# Altium footprint library TrackCommanderCar_PCB.PcbLib: 41 footprints (part 2 of 3)
Each footprint in its own frame and in the unit in brackets; x right, y up, seen from the top. Pads: shape width x height; smd on the part's side, far side on the other; paste and mask are expansions set on the pad; w line width, h text height; cw(c..) or ccw(c..) is an arc to the next point about the centre after c.
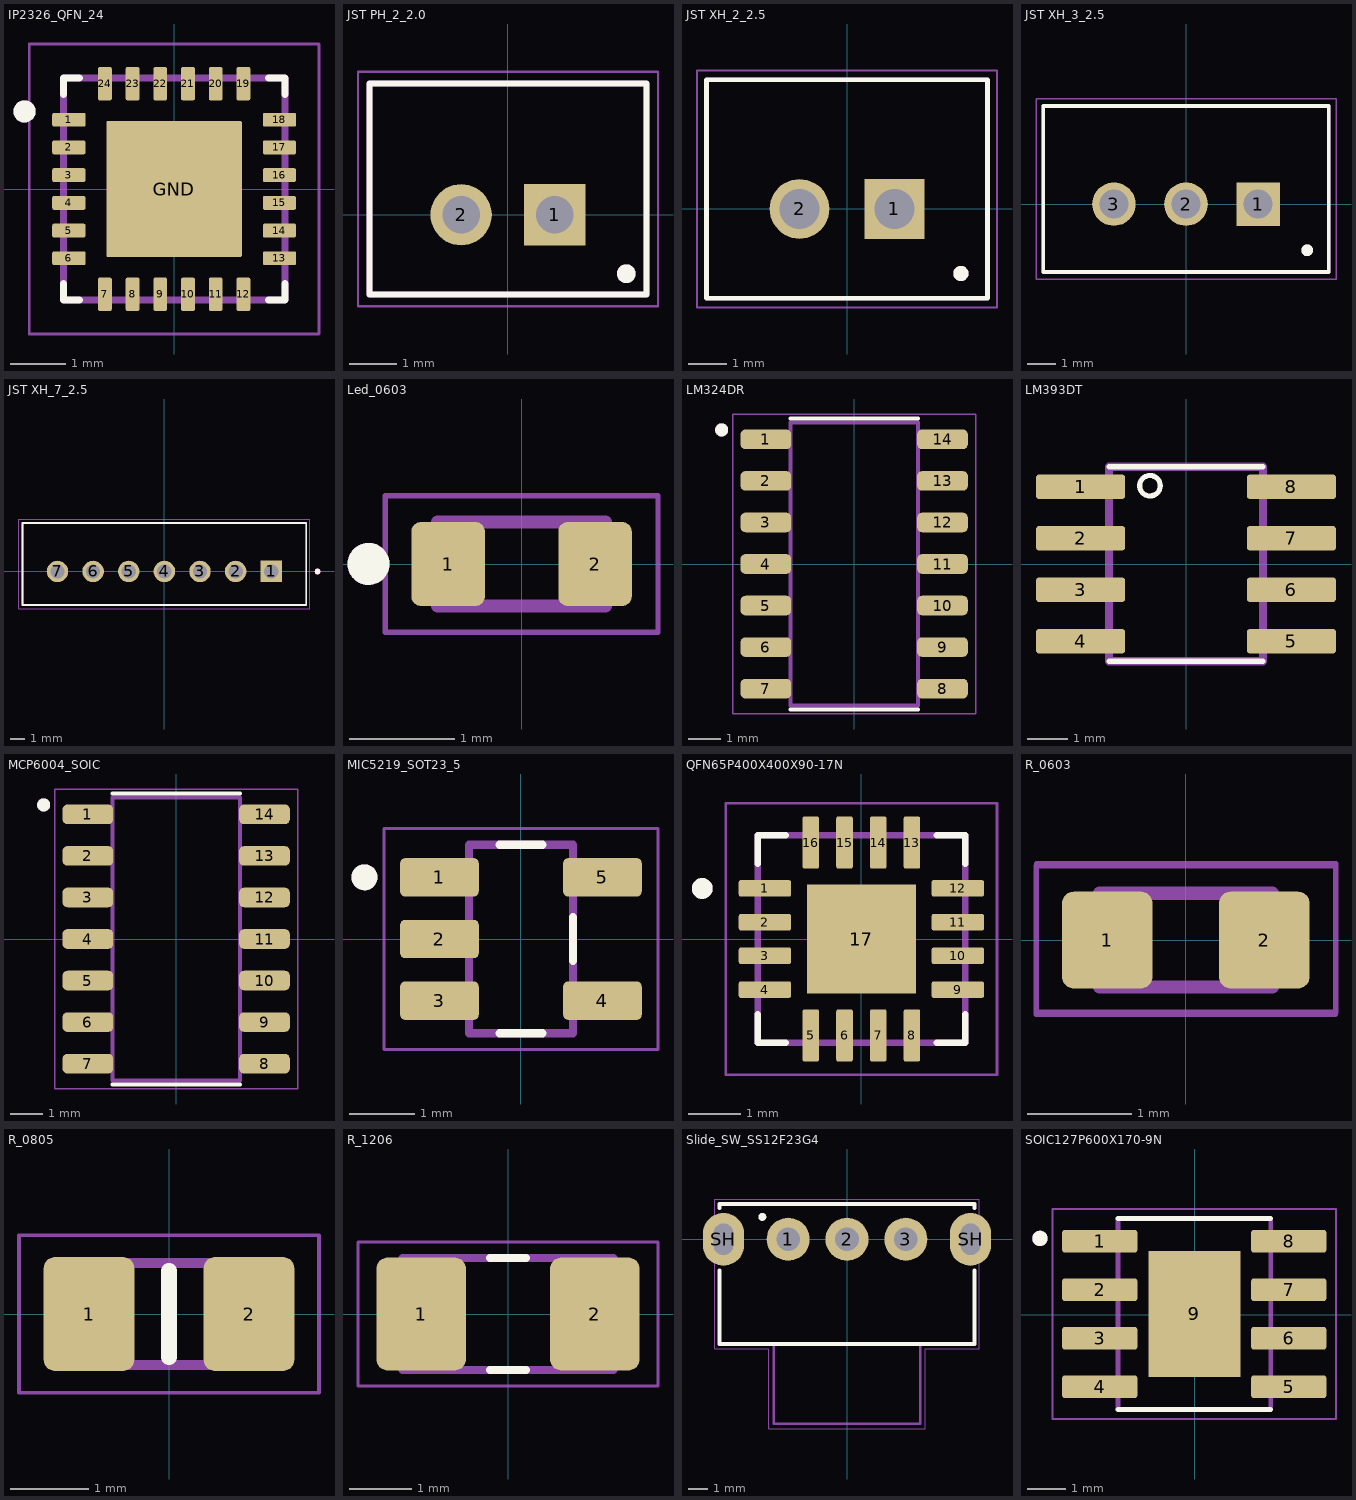
[diagram p1: the footprints below, top view; thin cyan lines are the x and y axes]

## IP2326_QFN_24 [mm]
pads (25):
  rrect25% 0.6x0.25 smd mask+0.07: 1(-1.9,1.25) 2(-1.9,0.75) 3(-1.9,0.25) 4(-1.9,-0.25) 5(-1.9,-0.75) 6(-1.9,-1.25) 13(1.9,-1.25) 14(1.9,-0.75) 15(1.9,-0.25) 16(1.9,0.25) 17(1.9,0.75) 18(1.9,1.25)
  rrect25% 0.25x0.6 smd mask+0.07: 7(-1.25,-1.9) 8(-0.75,-1.9) 9(-0.25,-1.9) 10(0.25,-1.9) 11(0.75,-1.9) 12(1.25,-1.9) 19(1.25,1.9) 20(0.75,1.9) 21(0.25,1.9) 22(-0.25,1.9) 23(-0.75,1.9) 24(-1.25,1.9)
  rrect2% 2.45x2.45 smd paste-0.45 mask+0.07: GND(0,0)
Top Overlay:
  circle w0.2: c-2.7,1.4 r0.1
  lines w0.127: -2,-1.705 -2,-2 -1.705,-2 ; -2,1.705 -2,2 -1.705,2 ; 1.705,-2 2,-2 2,-1.705 ; 1.705,2 2,2 2,1.705
Mechanical 13:
  circle w0.2: c-2.7,1.4 r0.1
  lines w0.127: -2,-2 -2,2 2,2 2,-2 -2,-2
Mechanical 15:
  lines w0.05: -2.615,-2.615 -2.615,2.615 2.615,2.615 2.615,-2.615 -2.615,-2.615
3D body "step_temp.STEP": height 1, standoff 0, extent -2,-2 2,2

## JST PH_2_2.0 [mm]
pads (2):
  rect 1.308x1.308 / inner round 1.308 / far side rect 1.308x1.308 hole 0.8 mask+0.07: 1(1,0)
  round 1.308 hole 0.8 mask+0.07: 2(-1,0)
Top Overlay:
  circle w0.2: c2.524,-1.257 r0.1
  lines w0.127: -2.95,-1.7 2.95,-1.7 2.95,2.8 -2.95,2.8 -2.95,-1.7
Mechanical 13:
  circle w0.2: c2.524,-1.257 r0.1
  lines w0.127: -2.95,-1.7 -2.95,2.8 2.95,2.8 2.95,-1.7 -2.95,-1.7
Mechanical 15:
  lines w0.05: -3.2,-1.95 -3.2,3.05 3.2,3.05 3.2,-1.95 -3.2,-1.95
3D body "step_temp.STEP": height 6, standoff -3.4, extent -2.95,-1.7 2.95,2.8

## JST XH_2_2.5 [mm]
pads (2):
  rect 1.575x1.575 / inner round 1.575 / far side rect 1.575x1.575 hole 1.05 mask+0.07: 1(1.25,0)
  round 1.575 hole 1.05 mask+0.07: 2(-1.25,0)
Top Overlay:
  circle w0.2: c3,-1.7 r0.1
  lines w0.127: -3.7,-2.35 -3.7,3.4 3.7,3.4 3.7,-2.35 -3.7,-2.35
Mechanical 13:
  circle w0.2: c3,-1.7 r0.1
  lines w0.127: -3.7,-2.35 -3.7,3.4 3.7,3.4 3.7,-2.35 -3.7,-2.35
Mechanical 15:
  lines w0.05: -3.95,-2.6 3.95,-2.6 3.95,3.65 -3.95,3.65 -3.95,-2.6
3D body "step_temp.STEP": height 7, standoff -3.4, extent -3.7,-2.35 3.7,3.4

## JST XH_3_2.5 [mm]
pads (3):
  rect 1.508x1.508 / inner round 1.508 / far side rect 1.508x1.508 hole 1 mask+0.07: 1(2.5,0)
  round 1.508 hole 1 mask+0.07: 2(0,0) 3(-2.5,0)
Top Overlay:
  circle w0.2: c4.2,-1.6 r0.1
  lines w0.127: -4.95,-2.35 4.95,-2.35 4.95,3.4 -4.95,3.4 -4.95,-2.35
Mechanical 13:
  circle w0.2: c4.2,-1.6 r0.1
  lines w0.127: -4.95,-2.35 4.95,-2.35 4.95,3.4 -4.95,3.4 -4.95,-2.35
Mechanical 15:
  lines w0.05: -5.2,-2.6 5.2,-2.6 5.2,3.65 -5.2,3.65 -5.2,-2.6
3D body "step_temp.STEP": height 7, standoff -3.4, extent -4.95,-2.35 4.95,3.4

## JST XH_7_2.5 [mm]
pads (7):
  rect 1.508x1.508 / inner round 1.508 / far side rect 1.508x1.508 hole 1 mask+0.07: 1(7.5,0)
  round 1.508 hole 1 mask+0.07: 2(5,0) 3(2.5,0) 4(0,0) 5(-2.5,0) 6(-5,0) 7(-7.5,0)
Top Overlay:
  circle w0.2: c10.75,0 r0.1
  lines w0.127: -9.95,-2.35 -9.95,3.4 9.95,3.4 9.95,-2.35 -9.95,-2.35
Mechanical 13:
  circle w0.2: c10.75,0 r0.1
  lines w0.127: -9.95,-2.35 -9.95,3.4 9.95,3.4 9.95,-2.35 -9.95,-2.35
Mechanical 15:
  lines w0.05: -10.2,-2.6 -10.2,3.65 10.2,3.65 10.2,-2.6 -10.2,-2.6
3D body "step_temp.STEP": height 7, standoff -3.4, extent -9.95,-2.35 9.95,3.4

## Led_0603 [mm]
pads (2):
  rrect25% 0.7x0.8 smd mask+0.07: 1(-0.7,0) 2(0.7,0)
Top Overlay:
  circle w0.2: c-1.459,0 r0.1
Mechanical 13:
  circle w0.2: c-1.459,0 r0.1
  lines w0.127: -0.8,-0.4 0.8,-0.4 0.8,0.4 -0.8,0.4 -0.8,-0.4
Mechanical 15:
  lines w0.05: -1.3,-0.65 -1.3,0.65 1.3,0.65 1.3,-0.65 -1.3,-0.65
3D body "step_temp.STEP": height 0.55, standoff 0, extent -0.8,-0.4 0.8,0.4

## LM324DR [mm]
pads (14):
  rrect50% 1.55x0.6 smd mask+0.05: 1(-2.7,3.81) 2(-2.7,2.54) 3(-2.7,1.27) 4(-2.7,0) 5(-2.7,-1.27) 6(-2.7,-2.54) 7(-2.7,-3.81) 8(2.7,-3.81) 9(2.7,-2.54) 10(2.7,-1.27) 11(2.7,0) 12(2.7,1.27) 13(2.7,2.54) 14(2.7,3.81)
Top Overlay:
  circle w0.2: c-4.05,4.1 r0.1
  lines w0.127: -1.95,-4.452 1.95,-4.452 ; -1.95,4.452 1.95,4.452
Mechanical 13:
  circle w0.2: c-4.05,4.1 r0.1
  lines w0.127: -1.95,-4.325 1.95,-4.325 1.95,4.325 -1.95,4.325 -1.95,-4.325
Mechanical 15:
  lines w0.05: -3.71,-4.575 3.71,-4.575 3.71,4.575 -3.71,4.575 -3.71,-4.575
3D body "step_temp.STEP": height 1.75, standoff 0, extent -3,-4.325 3,4.325

## LM393DT [mm]
pads (8):
  rrect25% 2.2x0.6 smd mask+0.07: 1(-2.6,1.905) 2(-2.6,0.635) 3(-2.6,-0.635) 4(-2.6,-1.905) 5(2.6,-1.905) 6(2.6,-0.635) 7(2.6,0.635) 8(2.6,1.905)
Top Overlay:
  circle w0.127: c-0.889,1.93 r0.254
  lines w0.127: -1.9,-2.4 1.9,-2.4 ; -1.9,2.4 1.9,2.4
Mechanical 13:
  region: -3.1,1.66 -3.1,2.15 -2,2.15 -2,1.66
  region: -3.1,0.39 -3.1,0.88 -2,0.88 -2,0.39
  region: -3.1,-0.88 -3.1,-0.39 -2,-0.39 -2,-0.88
  region: -3.1,-2.15 -3.1,-1.66 -2,-1.66 -2,-2.15
  region: 2,-2.15 2,-1.66 3.1,-1.66 3.1,-2.15
  region: 2,-0.88 2,-0.39 3.1,-0.39 3.1,-0.88
  region: 2,0.39 2,0.88 3.1,0.88 3.1,0.39
  region: 2,1.66 2,2.15 3.1,2.15 3.1,1.66
  lines w0.203: -1.9,-2.4 -1.4,-2.4 1.9,-2.4 1.9,2.4 -1.4,2.4 -1.9,2.4 -1.9,-2.4
3D body "step_temp.STEP": height 1.75, standoff 0, extent -3,-2.45 3,2.45

## MCP6004_SOIC [mm]
pads (14):
  rrect50% 1.55x0.6 smd mask+0.05: 1(-2.7,3.81) 2(-2.7,2.54) 3(-2.7,1.27) 4(-2.7,0) 5(-2.7,-1.27) 6(-2.7,-2.54) 7(-2.7,-3.81) 8(2.7,-3.81) 9(2.7,-2.54) 10(2.7,-1.27) 11(2.7,0) 12(2.7,1.27) 13(2.7,2.54) 14(2.7,3.81)
Top Overlay:
  circle w0.2: c-4.05,4.1 r0.1
  lines w0.127: -1.95,-4.452 1.95,-4.452 ; -1.95,4.452 1.95,4.452
Mechanical 13:
  circle w0.2: c-4.05,4.1 r0.1
  lines w0.127: -1.95,-4.325 -1.95,4.325 1.95,4.325 1.95,-4.325 -1.95,-4.325
Mechanical 15:
  lines w0.05: -3.71,-4.575 -3.71,4.575 3.71,4.575 3.71,-4.575 -3.71,-4.575
3D body "MCP6004-I_SL.STEP": height 1.75, standoff 0, extent -3,-4.325 3,4.325

## MIC5219_SOT23_5 [mm]
pads (5):
  rrect25% 1.21x0.59 smd mask+0.07: 1(-1.255,0.95) 2(-1.255,0) 3(-1.255,-0.95) 4(1.255,-0.95) 5(1.255,0.95)
Top Overlay:
  circle w0.2: c-2.41,0.95 r0.1
  lines w0.127: -0.33,-1.45 0.33,-1.45 ; -0.33,1.45 0.33,1.45 ; 0.8,-0.335 0.8,0.335
Mechanical 13:
  circle w0.2: c-2.41,0.95 r0.1
  lines w0.127: -0.8,-1.45 -0.8,1.45 0.8,1.45 0.8,-1.45 -0.8,-1.45
Mechanical 15:
  lines w0.05: -2.11,-1.7 2.11,-1.7 2.11,1.7 -2.11,1.7 -2.11,-1.7
3D body "step_temp.STEP": height 1.45, standoff 0, extent -1.35,-1.45 1.35,1.45

## QFN65P400X400X90-17N [mm]
height 0.9
pads (17):
  rrect25% 1.01x0.32 smd mask+0.07: 1(-1.86,0.975) 2(-1.86,0.325) 3(-1.86,-0.325) 4(-1.86,-0.975) 9(1.86,-0.975) 10(1.86,-0.325) 11(1.86,0.325) 12(1.86,0.975)
  rrect25% 0.32x1.01 smd mask+0.07: 5(-0.975,-1.86) 6(-0.325,-1.86) 7(0.325,-1.86) 8(0.975,-1.86) 13(0.975,1.86) 14(0.325,1.86) 15(-0.325,1.86) 16(-0.975,1.86)
  rect 2.1x2.1 smd paste-0.39 mask+0.07: 17(0,0)
Top Overlay:
  circle w0.2: c-3.07,0.975 r0.1
  lines w0.127: -2,-1.455 -2,-2 -1.455,-2 ; -2,1.455 -2,2 -1.455,2 ; 1.455,-2 2,-2 2,-1.455 ; 1.455,2 2,2 2,1.455
Mechanical 13:
  circle w0.2: c-3.07,0.975 r0.1
  lines w0.127: -2,-2 2,-2 2,2 -2,2 -2,-2
Mechanical 15:
  lines w0.05: -2.615,-2.615 2.615,-2.615 2.615,2.615 -2.615,2.615 -2.615,-2.615
3D body "step_temp.STEP": height 0.9, standoff 0, extent -2,-2 2,2

## R_0603 [mm]
pads (2):
  rrect25% 0.87x0.93 smd mask+0.07: 1(-0.755,0) 2(0.755,0)
Mechanical 13:
  lines w0.127: -0.83,-0.45 0.83,-0.45 0.83,0.45 -0.83,0.45 -0.83,-0.45
Mechanical 15:
  lines w0.05: -1.44,-0.715 1.44,-0.715 1.44,0.715 -1.44,0.715 -1.44,-0.715 ; -1.436,-0.695 -1.436,0.735 1.444,0.735 1.444,-0.695 -1.436,-0.695
3D body "step_temp.STEP": height 0.55, standoff 0, extent -0.775,-0.4 0.775,0.4

## R_0805 [mm]
pads (2):
  rrect25% 1.15x1.45 smd mask+0.07: 1(-1.016,0)
  rrect25% 1.15x1.45 smd paste-2539.97 mask+0.07: 2(1.016,0)
Top Overlay:
  lines w0.2: 0,-0.55 0,0.55
Top Paste:
  region: 0.441,-0.437 0.441,0.437 0.441,0.466 0.452,0.521 0.474,0.574 0.505,0.621 0.545,0.661 0.592,0.692 0.645,0.714 0.7,0.725 0.728,0.725 1.304,0.725 1.332,0.725 1.387,0.714 1.44,0.692 1.487,0.661 1.527,0.621 1.558,0.574 1.58,0.521 1.591,0.466 1.591,0.437 1.591,-0.437 1.591,-0.466 1.58,-0.521 1.558,-0.574 1.527,-0.621 1.487,-0.661 1.44,-0.692 1.387,-0.714 1.332,-0.725 1.304,-0.725 0.728,-0.725 0.7,-0.725 0.645,-0.714 0.592,-0.692 0.545,-0.661 0.505,-0.621 0.474,-0.574 0.452,-0.521 0.441,-0.466
Mechanical 13:
  region: 1,-0.65 0.5,-0.65 0.5,0.65 1,0.65
  region: -0.5,-0.65 -1,-0.65 -1,0.65 -0.5,0.65
  lines w0.127: -1,-0.65 -1,0.65 1,0.65 1,-0.65 -1,-0.65
Mechanical 15:
  lines w0.05: -1.905,-1 -1.905,1 1.905,1 1.905,-1 -1.905,-1
3D body "step_temp.STEP": height 0.65, standoff 0, extent -1,-0.625 1,0.625

## R_1206 [mm]
pads (2):
  rrect25% 1.44x1.82 smd mask+0.07: 1(-1.397,0) 2(1.397,0)
Top Overlay:
  lines w0.127: -0.29,-0.9 0.29,-0.9 ; -0.29,0.9 0.29,0.9
Mechanical 13:
  lines w0.127: -1.7,-0.9 -1.7,0.9 1.7,0.9 1.7,-0.9 -1.7,-0.9
Mechanical 15:
  lines w0.05: -2.413,-1.158 -2.413,1.158 2.413,1.158 2.413,-1.158 -2.413,-1.158
3D body "step_temp.STEP": height 0.65, standoff 0, extent -1.55,-0.775 1.55,0.775

## Slide_SW_SS12F23G4 [mm]
pads (5):
  round 2.2 hole 1.2 mask+0.07: 1(-3,0) 2(0,0) 3(3,0)
  oval 2.1x2.7 hole 1 slot 1.6 at 90 deg mask+0.07: SH(-6.3,0) SH(6.3,0)
Top Overlay:
  circle w0.2: c-4.318,1.143 r0.1
  lines w0.2: -6.5,-1.6 -6.5,-5.35 6.5,-5.35 6.5,-1.6 ; -6.5,1.6 -6.5,1.8 6.5,1.8 6.5,1.6
Mechanical 13:
  lines w0.127: -6.5,-2.1 -6.5,-5.35 -3.745,-5.35 3.745,-5.35 6.5,-5.35 6.5,-2.1 ; -3.745,-5.395 -3.745,-9.395 3.745,-9.395 3.745,-5.395
Mechanical 15:
  lines w0.05: -6.75,-5.588 -3.995,-5.588 -3.995,-9.652 3.995,-9.652 3.995,-5.588 6.75,-5.588 6.75,2.032 2.566,2.032 -4.344,2.032 -6.75,2.032 -6.75,-5.588
3D body: height 5, standoff 0.5, extent -5.301,-1.301 5.301,-0.499
3D body "SS-8.step": height 5.6, standoff -3, extent -6.5,-10.35 6.5,0.45

## SOIC127P600X170-9N [mm]
pads (9):
  rrect25% 1.97x0.6 smd mask+0.05: 1(-2.484,1.922) 2(-2.484,0.652) 3(-2.484,-0.618) 4(-2.484,-1.888) 5(2.466,-1.888) 6(2.466,-0.618) 7(2.466,0.652) 8(2.466,1.922)
  rect 2.41x3.3 smd paste-3 mask+0.05: 9(-0.009,0.017)
Top Overlay:
  circle w0.2: c-4.049,1.997 r0.1
  lines w0.127: -2.009,-2.483 1.991,-2.483 ; -2.009,2.517 1.991,2.517
Top Paste:
  region: 0.753,-1.025 -0.772,-1.025 -0.772,1.057 0.753,1.057
Mechanical 13:
  circle w0.2: c-4.053,1.994 r0.1
  lines w0.127: -2.009,-2.483 -2.009,2.517 1.991,2.517 1.991,-2.483 -2.009,-2.483
Mechanical 15:
  lines w0.05: -3.719,-2.733 -3.719,2.767 3.701,2.767 3.701,-2.733 -3.719,-2.733
3D body "step_temp.STEP": height 1.7, standoff 0, extent -3.009,-2.433 2.991,2.467